# Altium integrated library LM308N.IntLib: 1 symbol
Pins are listed as number, name and electrical type; pins without a type are passive.

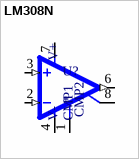
[diagram p0: symbol LM308N]

## LM308N
designator U?
MP: LM308N; Value: *; Availability: Unavailable; Price: None; Package: None
footprint DIL08
pins: 1 CMP1, 2 -IN (in), 3 +IN (in), 4 V- (power), 6 OUT (out), 7 V+ (power), 8 CMP2